# Altium footprint library SFH203FA.PcbLib: 1 footprints
Each footprint in its own frame and in the unit in brackets; x right, y up, seen from the top. Pads: shape width x height; smd on the part's side, far side on the other; paste and mask are expansions set on the pad; w line width, h text height; cw(c..) or ccw(c..) is an arc to the next point about the centre after c.
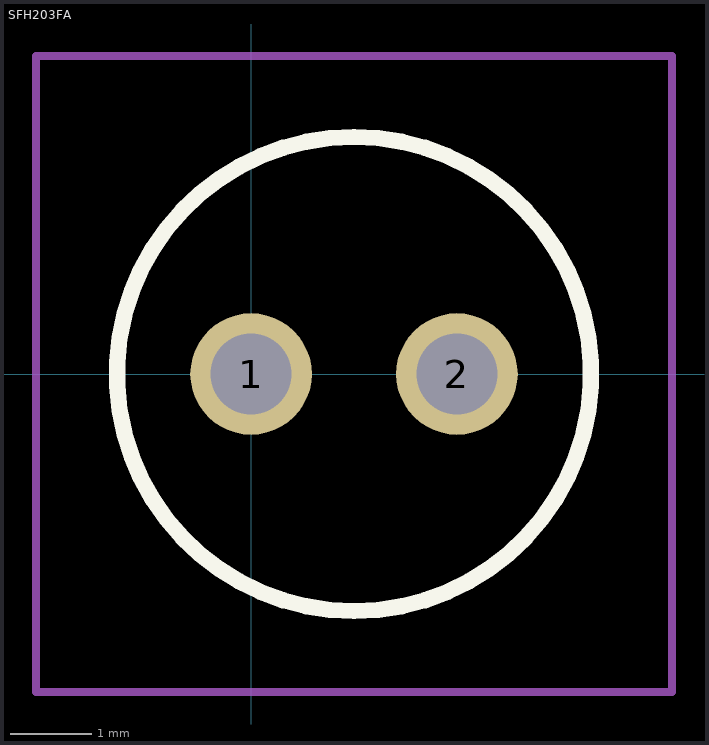
[diagram p0: the footprint, top view; thin cyan lines are the x and y axes]

## SFH203FA [mm]
pads (2):
  round 1.5 hole 1: 1(0,0) 2(2.54,0)
Top Overlay:
  lines w0.2: 1.27,-2.925 cw(c1.27,0) 1.27,2.925 ; 1.27,-2.925 1.27,-2.925 ; 1.27,-2.925 ccw(c1.27,0) 1.27,2.925 ; 1.27,2.925 1.27,2.925
Mechanical 15:
  lines w0.1: 1.27,-2.925 cw(c1.27,0) 1.27,2.925 ; 1.27,-2.925 1.27,-2.925 ; 1.27,-2.925 ccw(c1.27,0) 1.27,2.925 ; 1.27,2.925 1.27,2.925
Mechanical 20:
  lines w0.1: -2.655,-3.925 5.195,-3.925 5.195,3.925 -2.655,3.925 -2.655,-3.925